# EAGLE library part TDA7375V (library AMP Library)
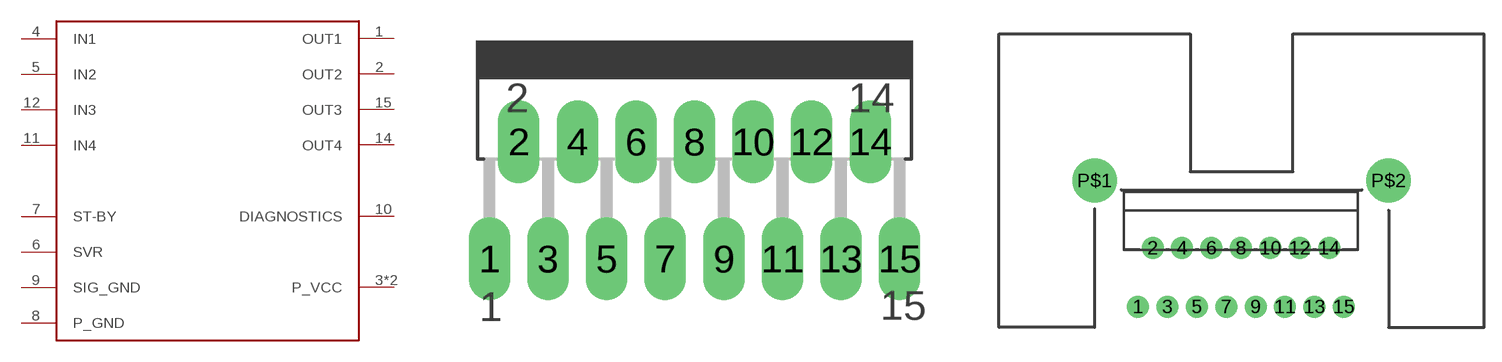
[diagram p0: symbol with the pads of MULTIWATT-15; footprints MULTIWATT-15, MULTIWATT15_6400BGHEATSINK_2]

Designator prefix -

## TDA7375V  [MULTIWATT-15]
1  OUT1
2  OUT2
3  P_VCC
4  IN1
5  IN2
6  SVR
7  ST-BY
8  P_GND
9  SIG_GND
10  DIAGNOSTICS
11  IN4
12  IN3
13  P_VCC
14  OUT4
15  OUT3

## TDA7375VHEATSINK  [MULTIWATT15_6400BGHEATSINK_2]

## Footprint MULTIWATT-15 (pad centres in mm)
Multiwatt 15 lead
drill 1.2 long: 1 -8.89,-7.62; 2 -7.62,-2.54; 3 -6.35,-7.62; 4 -5.08,-2.54; 5 -3.81,-7.62; 6 -2.54,-2.54; 7 -1.27,-7.62; 8 0,-2.54; 9 1.27,-7.62; 10 2.54,-2.54; 11 3.81,-7.62; 12 5.08,-2.54; 13 6.35,-7.62; 14 7.62,-2.54; 15 8.89,-7.62

## Footprint MULTIWATT15_6400BGHEATSINK_2 (pad centres in mm)
drill 1.1 pad 1.9: 1 -8.95,-2.39; 2 -7.68,2.69; 3 -6.41,-2.39; 4 -5.14,2.69; 5 -3.87,-2.39; 6 -2.6,2.69; 7 -1.33,-2.39; 8 -0.06,2.69; 9 1.21,-2.39; 10 2.48,2.69; 11 3.75,-2.39; 12 5.02,2.69; 13 6.29,-2.39; 14 7.56,2.69; 15 8.83,-2.39
drill 2.413 pad 3.81: P$1 -12.7,8.509; P$2 12.7,8.509